# Altium schematic symbol library SN74HC08N.SchLib: 1 symbol
Pins are listed as number, name and electrical type; pins without a type are passive.

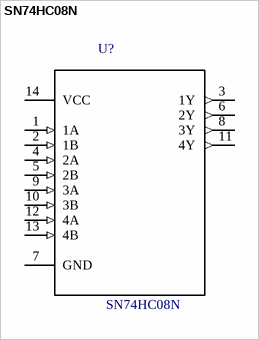
[diagram p0: symbol SN74HC08N]

## SN74HC08N
designator U?
MF: Texas Instruments; Package: PDIP-14 Signetics; Digi-Key_Part_Number: 296-1570-5-ND; MP: SN74HC08N; Digi-Key_Purchase_URL: https://www.digikey.com/product-detail/en/texas-instruments/SN74HC08N/296-1570-5-ND/277216?utm_source=snapeda&utm_medium=aggregator&utm_campaign=symbol; SnapEDA_Link: https://www.snapeda.com/parts/SN74HC08N/Texas%20Instruments/view-part/?ref=snap; Value: *
footprint *DIP254P762X508-14
pins: 1 1A (in), 2 1B (in), 3 1Y (out), 4 2A (in), 5 2B (in), 6 2Y (out), 7 GND, 8 3Y (out), 9 3A (in), 10 3B (in), 11 4Y (out), 12 4A (in), 13 4B (in), 14 VCC (power)